# Altium schematic symbol library ERA-8AEB201V.SchLib: 1 symbol
Pins are listed as number, name and electrical type; pins without a type are passive.

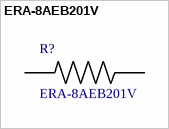
[diagram p0: symbol ERA-8AEB201V]

## ERA-8AEB201V
designator R?
/ Res Thin Film 1206 200 Ohm 0.1% 0.25W_1/4W_ Â±25ppm/C Pad SMD Automotive T/R /; MF: Panasonic; SnapEDA_Link: https://www.snapeda.com/parts/ERA-8AEB201V/Panasonic%20Electronic%20Components/view-part/?ref=snap; Availability: Unavailable; Price: None; MP: ERA-8AEB201V; Package: 3216 Panasonic Electronic Components; Value: *
footprint *RESC3216X70N
pins: 1, 2